# Altium schematic symbol library lib.SchLib: 480 symbols (part 6 of 6)
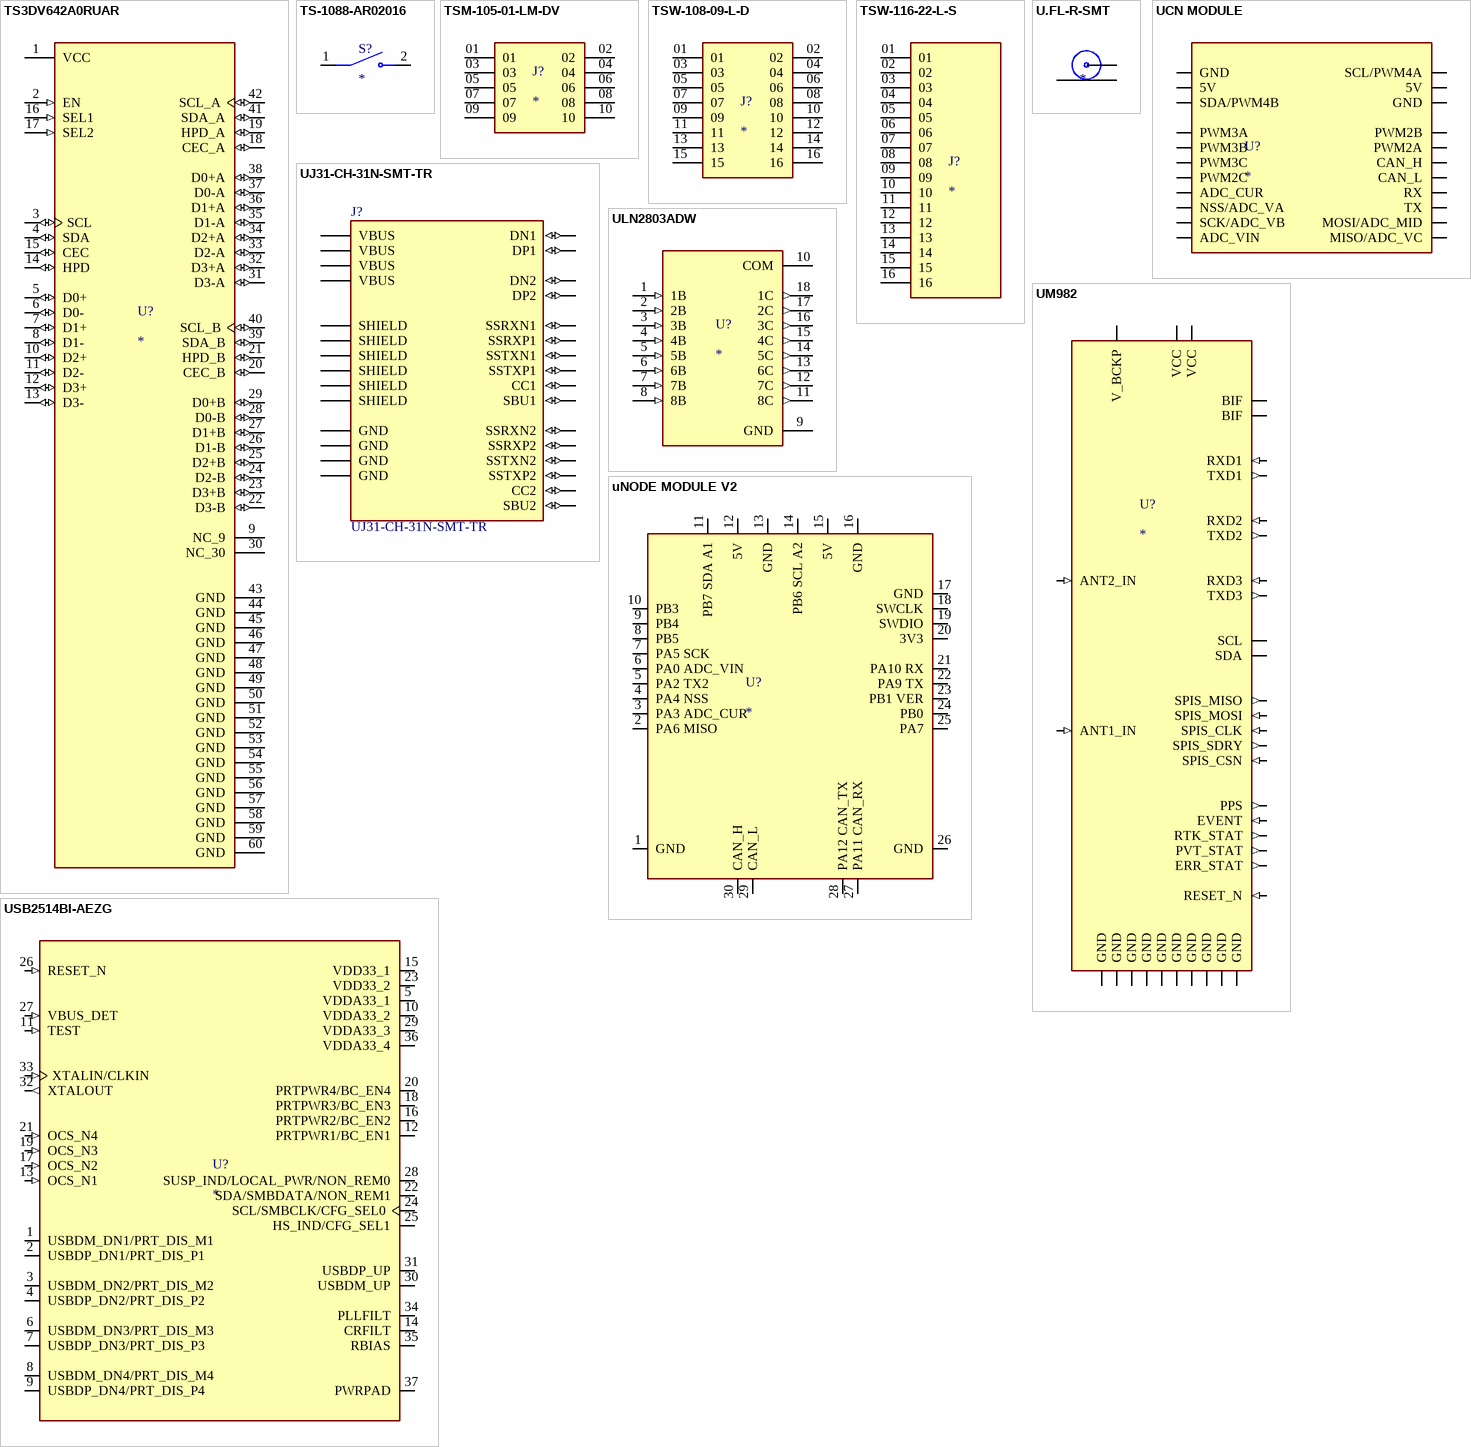
[diagram p25: symbols TS3DV642A0RUAR to USB2514BI-AEZG]

## TS3DV642A0RUAR
designator U?
Multi-Channel Differential Switch/Multiplexer Targeting DVI/HDMI & DisplayPort Applications 42-WQFN -40 to 85; MF: Texas Instruments; MP: TS3DV642A0RUAR; Texas_Instruments-Purchase-URL: https://snapeda.com/shop?store=Texas+Instruments&id=50654; SnapEDA_Link: https://www.snapeda.com/parts/TS3DV642A0RUAR/Texas%20Instruments/view-part/50654/?ref=snap; Price: None; Availability: Unavailable; Value: *; Package: WQFN-42 Texas Instruments
footprint QFN50P900X350X80-43N
pins: 1 VCC (power), 2 EN (in), 3 SCL (io), 4 SDA (io), 5 D0+ (io), 6 D0- (io), 7 D1+ (io), 8 D1- (io), 9 NC_9, 10 D2+ (io), 11 D2- (io), 12 D3+ (io), 13 D3- (io), 14 HPD (io), 15 CEC (io), 16 SEL1 (in), 17 SEL2 (in), 18 CEC_A (io), 19 HPD_A (io), 20 CEC_B (io), 21 HPD_B (io), 22 D3-B (io), 23 D3+B (io), 24 D2-B (io), 25 D2+B (io), 26 D1-B (io), 27 D1+B (io), 28 D0-B (io), 29 D0+B (io), 30 NC_30, 31 D3-A (io), 32 D3+A (io), 33 D2-A (io), 34 D2+A (io), 35 D1-A (io), 36 D1+A (io), 37 D0-A (io), 38 D0+A (io), 39 SDA_B (io), 40 SCL_B (io), 41 SDA_A (io), 42 SCL_A (io), 43 GND (power), 44 GND (power), 45 GND (power), 46 GND (power), 47 GND (power), 48 GND (power), 49 GND (power), 50 GND (power), 51 GND (power), 52 GND (power), 53 GND (power), 54 GND (power), 55 GND (power), 56 GND (power), 57 GND (power), 58 GND (power), 59 GND (power), 60 GND (power)

## TS-1088-AR02016
designator S?
50mA 4mm 100MÎ© 100,000 Times 12V 160gf 3mm 2mm Round Button Vertical welding SPST SMD Tactile Switches ROHS; MF: Xunpu; MP: TS-1088-AR02016; SnapEDA_Link: https://www.snapeda.com/parts/TS-1088-AR02016/Xunpu/view-part/?ref=snap; Package: Package; Value: *; Check_prices: https://www.snapeda.com/parts/TS-1088-AR02016/Xunpu/view-part/?ref=eda
footprint SW_TS-1088-AR02016
pins: 1, 2

## TSM-105-01-LM-DV
designator J?
Conn Unshrouded Header HDR 10 POS 2.54mm Solder ST SMD Tube; MP: TSM-105-01-LM-DV; MF: Samtec; SnapEDA_Link: https://www.snapeda.com/parts/TSM-105-01-LM-DV/Samtec/view-part/?ref=snap; Package: None; Value: *
footprint SAMTEC_TSM-105-01-LM-DV
pins: 01, 02, 03, 04, 05, 06, 07, 08, 09, 10

## TSW-108-09-L-D
designator J?
MP: TSW-108-09-L-D; Package: None; Value: *
footprint SAMTEC_TSW-108-09-L-D
pins: 01, 02, 03, 04, 05, 06, 07, 08, 09, 10, 11, 12, 13, 14, 15, 16

## TSW-116-22-L-S
designator J?
MP: TSW-116-22-L-S; Package: None; Price: None; Value: *; Availability: Unavailable
footprint SAMTEC_TSW-116-22-L-S
pins: 01, 02, 03, 04, 05, 06, 07, 08, 09, 10, 11, 12, 13, 14, 15, 16

## U.FL-R-SMT
designator ?
U.FL _UMCC_ Connector Receptacle, Male Pin 50Ohm Surface Mount Solder; MF: Hirose Electric; MP: U.FL-R-SMT; Package: None; Value: *; SnapEDA_Link: https://www.snapeda.com/parts/U.FL-R-SMT/Hirose%20Electric%20Co%20Ltd/view-part/470271/?ref=snap; ChipDip_Link: https://www.chipdip.ru/product1/8001801560; HelpURL: http://www.farnell.com/datasheets/2691132.pdf
footprint U.FL-R-SMT (Footprint not found)
pins: P$1, P$2 (power), P$3 (power)

## UCN MODULE
designator U?
Instructions: DNP; Package: None; Value: *
footprint UCN MODULE
pins: 1 ADC_VIN, 2 SCK/ADC_VB, 3 NSS/ADC_VA, 4 ADC_CUR, 5 PWM2C, 6 PWM3C, 7 PWM3B, 8 PWM3A, 9 SDA/PWM4B, 10 5V, 11 GND, 12 SCL/PWM4A, 13 5V, 14 GND, 15 PWM2B, 16 PWM2A, 17 CAN_H, 18 CAN_L, 19 RX, 20 TX, 21 MOSI/ADC_MID, 22 MISO/ADC_VC

## UJ31-CH-31N-SMT-TR
designator J?
Type C, USB 3.1 Gen 2, 5 A, Right Angle, Surface Mount _SMT_, USB Receptacle; MF: CUI Devices; Value: *; SnapEDA_Link: https://www.snapeda.com/parts/UJ31-CH-31N-SMT-TR/CUI%20Devices/view-part/2776725/?ref=snap; Package: None; MP: UJ31-CH-31N-SMT-TR; ChipDip_Link: https://www.chipdip.ru/product1/8002862225; HelpURL: https://www.chipdip.ru/product1/8002862225; Type: SMT
footprint CUI_UJ31-CH-31N-SMT-TR
pins: A1 GND (power), A2 SSTXP1 (io), A3 SSTXN1 (io), A4 VBUS (power), A5 CC1 (io), A6 DP1 (io), A7 DN1 (io), A8 SBU1 (io), A9 VBUS (power), A10 SSRXN2 (io), A11 SSRXP2 (io), A12 GND (power), B1 GND (power), B2 SSTXP2 (io), B3 SSTXN2 (io), B4 VBUS (power), B5 CC2 (io), B6 DP2 (io), B7 DN2 (io), B8 SBU2 (io), B9 VBUS (power), B10 SSRXN1 (io), B11 SSRXP1 (io), B12 GND (power), SH1 SHIELD (power), SH2 SHIELD (power), SH3 SHIELD (power), SH4 SHIELD (power), SH5 SHIELD (power), SH6 SHIELD (power)

## ULN2803ADW
designator U?
50-V, 8-ch darlington array; MF: Texas Instruments; MP: ULN2803ADW; SnapEDA_Link: https://www.snapeda.com/parts/ULN2803ADW/Texas+Instruments/view-part/?ref=snap; Package: SOIC-18 Texas Instruments; Value: *; Check_prices: https://www.snapeda.com/parts/ULN2803ADW/Texas+Instruments/view-part/?ref=eda; HelpURL: https://www.lcsc.com/datasheet/C845537.pdf
footprint IC_ULN2803ADW
pins: 1 1B (in), 2 2B (in), 3 3B (in), 4 4B (in), 5 5B (in), 6 6B (in), 7 7B (in), 8 8B (in), 9 GND (power), 10 COM (power), 11 8C (out), 12 7C (out), 13 6C (out), 14 5C (out), 15 4C (out), 16 3C (out), 17 2C (out), 18 1C (out)

## UM982
designator U?
u-blox F9 high precision GNSS module; MF: U-Blox America; MP: ZED-F9P-00B-02; Price: None; Availability: Unavailable; SnapEDA_Link: https://www.snapeda.com/parts/ZED-F9P-00B-02/U-Blox%20America%20Inc./view-part/4176726/?ref=snap; Value: *; Package: SMD-54 u-blox; HelpURL: https://en.unicorecomm.com/download?id=2&s=982#main
footprint UM982
pins: 1 GND, 2 ANT1_IN (in), 3 GND, 4 GND, 5 V_BCKP, 6 SPIS_CSN (in), 7 SPIS_MOSI (in), 8 SPIS_CLK (in), 9 SPIS_MISO (out), 10 SPIS_SDRY (out), 14 ERR_STAT (out), 15 PVT_STAT (out), 16 RTK_STAT (out), 17 RXD1 (in), 18 TXD1 (out), 19 RXD2 (in), 20 TXD2 (out), 21 SCL (io), 22 SDA (io), 23 VCC, 24 VCC, 25 BIF, 26 BIF, 27 TXD3 (out), 28 RXD3 (in), 30 PPS (out), 32 EVENT (in), 33 RESET_N (in), 34 GND, 35 GND, 36 ANT2_IN (in), 37 GND, 41 GND, 43 GND, 45 GND, PAD GND

## uNODE MODULE V2
designator U?
Instructions: DNP; Package: None; Value: *
footprint uNODE_MODULE_V2
pins: 1 GND, 2 PA6 MISO, 3 PA3 ADC_CUR, 4 PA4 NSS, 5 PA2 TX2, 6 PA0 ADC_VIN, 7 PA5 SCK, 8 PB5, 9 PB4, 10 PB3, 11 PB7 SDA A1, 12 5V, 13 GND, 14 PB6 SCL A2, 15 5V, 16 GND, 17 GND, 18 SWCLK, 19 SWDIO, 20 3V3, 21 PA10 RX, 22 PA9 TX, 23 PB1 VER, 24 PB0, 25 PA7, 26 GND, 27 PA11 CAN_RX, 28 PA12 CAN_TX, 29 CAN_L, 30 CAN_H

## USB2514BI-AEZG
designator U?
USB Hub Controller USB 2.0 USB Interface 36-QFN (6x6); MF: Microchip; MP: USB2514BI-AEZG-TR; SnapEDA_Link: https://www.snapeda.com/parts/USB2514BI-AEZG-TR/Microchip/view-part/?ref=snap; Package: VQFN-36 Microchip; Value: *; Check_prices: https://www.snapeda.com/parts/USB2514BI-AEZG-TR/Microchip/view-part/?ref=eda
footprint QFN50P600X600X100-37N
pins: 1 USBDM_DN1/PRT_DIS_M1 (io), 2 USBDP_DN1/PRT_DIS_P1 (io), 3 USBDM_DN2/PRT_DIS_M2 (io), 4 USBDP_DN2/PRT_DIS_P2 (io), 5 VDDA33_1 (power), 6 USBDM_DN3/PRT_DIS_M3 (io), 7 USBDP_DN3/PRT_DIS_P3 (io), 8 USBDM_DN4/PRT_DIS_M4 (io), 9 USBDP_DN4/PRT_DIS_P4 (io), 10 VDDA33_2 (power), 11 TEST (in), 12 PRTPWR1/BC_EN1 (io), 13 OCS_N1 (in), 14 CRFILT, 15 VDD33_1 (power), 16 PRTPWR2/BC_EN2 (io), 17 OCS_N2 (in), 18 PRTPWR3/BC_EN3 (io), 19 OCS_N3 (in), 20 PRTPWR4/BC_EN4 (io), 21 OCS_N4 (in), 22 SDA/SMBDATA/NON_REM1 (io), 23 VDD33_2 (power), 24 SCL/SMBCLK/CFG_SEL0 (io), 25 HS_IND/CFG_SEL1 (io), 26 RESET_N (in), 27 VBUS_DET (in), 28 SUSP_IND/LOCAL_PWR/NON_REM0 (io), 29 VDDA33_3 (power), 30 USBDM_UP (io), 31 USBDP_UP (io), 32 XTALOUT (out), 33 XTALIN/CLKIN (in), 34 PLLFILT, 35 RBIAS, 36 VDDA33_4 (power), 37 PWRPAD (power)

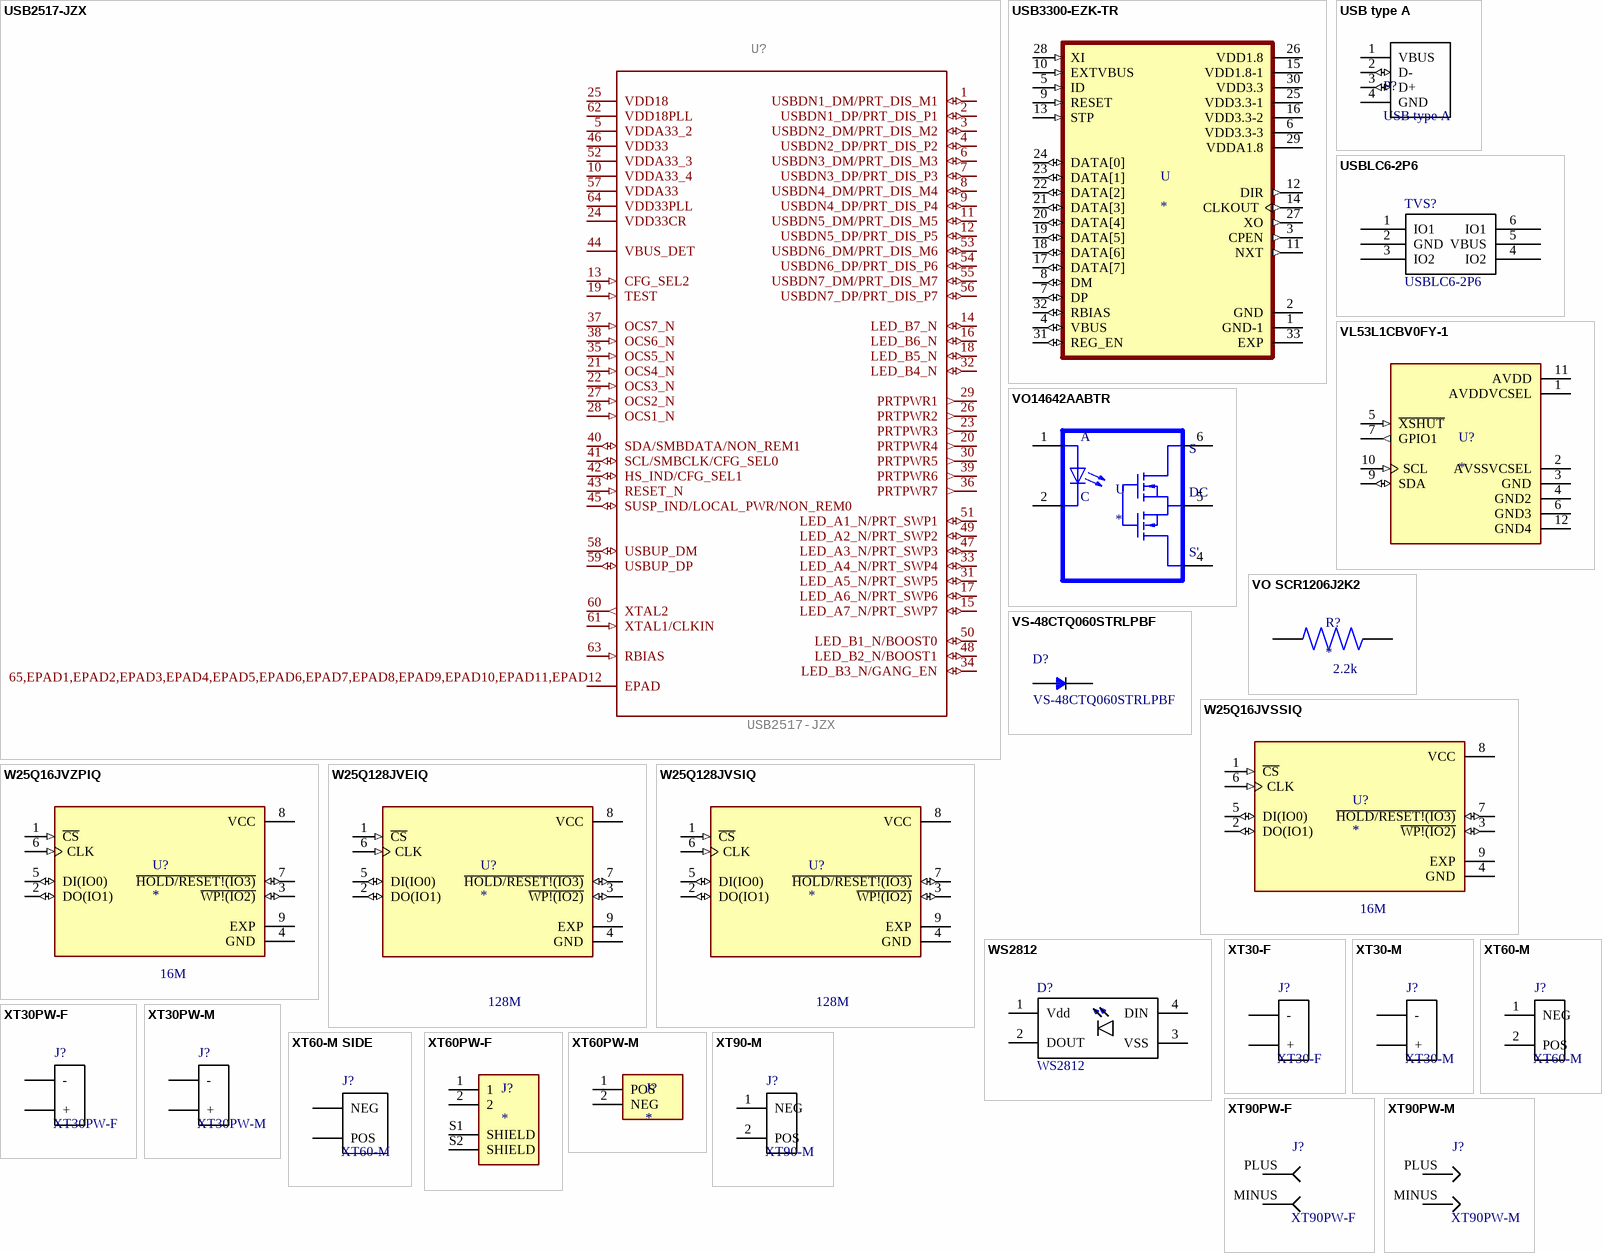
[diagram p19: symbols USB2517-JZX to XT90PW-M]

## USB2517-JZX
designator U?
IC, 7-PORT USB 2.0 HUB CONTRL, 64QFN
footprint QFN64-9X9MM-FT2232HQ (Footprint not found)
pins: 1 USBDN1_DM/PRT_DIS_M1 (io), 2 USBDN1_DP/PRT_DIS_P1 (io), 3 USBDN2_DM/PRT_DIS_M2 (io), 4 USBDN2_DP/PRT_DIS_P2 (io), 5 VDDA33_2 (power), 6 USBDN3_DM/PRT_DIS_M3 (io), 7 USBDN3_DP/PRT_DIS_P3 (io), 8 USBDN4_DM/PRT_DIS_M4 (io), 9 USBDN4_DP/PRT_DIS_P4 (io), 10 VDDA33_4 (power), 11 USBDN5_DM/PRT_DIS_M5 (io), 12 USBDN5_DP/PRT_DIS_P5 (io), 13 CFG_SEL2 (in), 14 LED_B7_N (io), 15 LED_A7_N/PRT_SWP7 (io), 16 LED_B6_N (io), 17 LED_A6_N/PRT_SWP6 (io), 18 LED_B5_N (io), 19 TEST (in), 20 PRTPWR4 (out), 21 OCS4_N (in), 22 OCS3_N (in), 23 PRTPWR3 (out), 24 VDD33CR (power), 25 VDD18 (power), 26 PRTPWR2 (out), 27 OCS2_N (in), 28 OCS1_N (in), 29 PRTPWR1 (out), 30 PRTPWR5 (out), 31 LED_A5_N/PRT_SWP5 (io), 32 LED_B4_N (io), 33 LED_A4_N/PRT_SWP4 (io), 34 LED_B3_N/GANG_EN (io), 35 OCS5_N (in), 36 PRTPWR7 (out), 37 OCS7_N (in), 38 OCS6_N (in), 39 PRTPWR6 (out), 40 SDA/SMBDATA/NON_REM1 (io), 41 SCL/SMBCLK/CFG_SEL0 (io), 42 HS_IND/CFG_SEL1 (io), 43 RESET_N (in), 44 VBUS_DET (power), 45 SUSP_IND/LOCAL_PWR/NON_REM0 (io), 46 VDD33 (power), 47 LED_A3_N/PRT_SWP3 (io), 48 LED_B2_N/BOOST1 (io), 49 LED_A2_N/PRT_SWP2 (io), 50 LED_B1_N/BOOST0 (io), 51 LED_A1_N/PRT_SWP1 (io), 52 VDDA33_3 (power), 53 USBDN6_DM/PRT_DIS_M6 (io), 54 USBDN6_DP/PRT_DIS_P6 (io), 55 USBDN7_DM/PRT_DIS_M7 (io), 56 USBDN7_DP/PRT_DIS_P7 (io), 57 VDDA33 (power), 58 USBUP_DM (io), 59 USBUP_DP (io), 60 XTAL2 (out), 61 XTAL1/CLKIN (in), 62 VDD18PLL (power), 63 RBIAS (in), 64 VDD33PLL (power), 65,EPAD1,EPAD2,EPAD3,EPAD4,EPAD5,EPAD6,EPAD7,EPAD8,EPAD9,EPAD10,EPAD11,EPAD12 EPAD

## USB3300-EZK-TR
designator U
USB Controller USB 2.0, OTG ULPI Interface 32-QFN _5x5_; MF: Microchip; MP: USB3300-EZK-TR; Value: *; SnapEDA_Link: https://www.snapeda.com/parts/USB3300-EZK-TR/Microchip/view-part/328725/?ref=snap; Package: QFN-32 Microchip; ChipDip_Link: https://www.chipdip.ru/product/usb3300-ezk-tr; HelpURL: https://static.chipdip.ru/lib/652/DOC001652593.pdf
footprint QFN50P500X500X100-33N
pins: 1 GND-1 (power), 2 GND (power), 3 CPEN (out), 4 VBUS (io), 5 ID (in), 6 VDD3.3-3 (power), 7 DP (io), 8 DM (io), 9 RESET (in), 10 EXTVBUS (in), 11 NXT (out), 12 DIR (out), 13 STP (in), 14 CLKOUT (out), 15 VDD1.8-1 (power), 16 VDD3.3-2 (power), 17 DATA[7] (io), 18 DATA[6] (io), 19 DATA[5] (io), 20 DATA[4] (io), 21 DATA[3] (io), 22 DATA[2] (io), 23 DATA[1] (io), 24 DATA[0] (io), 25 VDD3.3-1 (power), 26 VDD1.8 (power), 27 XO (out), 28 XI (in), 29 VDDA1.8 (power), 30 VDD3.3 (power), 31 REG_EN (io), 32 RBIAS (io), 33 EXP (power)

## USB type A
designator P?
USB - micro A; MF: Molex; MP: 47346-0001; Value: *; SnapEDA_Link: https://www.snapeda.com/parts/47346-0001/Molex/view-part/53503/?ref=snap; Package: None; ChipDip_Link: https://www.chipdip.ru/product/molex-47346-0001; HelpURL: https://static.chipdip.ru/lib/002/DOC001002744.pdf
footprint USB type A
pins: 1 VBUS (power), 2 D- (io), 3 D+ (io), 4 GND

## USBLC6-2P6
designator TVS?
17V Clamp 5A (8/20µs) Ipp Tvs Diode Surface Mount SOT-666; MF: STM; ChipDip_Link: https://www.chipdip.ru/product/usblc6-2p6-2; HelpURL: https://static.chipdip.ru/lib/093/DOC001093117.pdf; MP: USBLC6-2P6; Package: SOT-666; SnapEDA_Link: https://www.snapeda.com/parts/USBLC6-2P6/STMicroelectronics/view-part/?ref=search&t=USBLC6-2P6; Type: SMD
footprint SOT23127P600-8N
pins: 1 IO1, 2 GND, 3 IO2, 4 IO2, 5 VBUS, 6 IO1

## VL53L1CBV0FY-1
designator U?
Optical Sensor 157.480 _4m_ IÂ²C Output; MF: STMicroelectronics; MP: VL53L1CBV0FY/1; Availability: Unavailable; Price: None; Package: LGA-12 STMicroelectronics; Value: *; SnapEDA_Link: https://www.snapeda.com/parts/VL53L1CBV0FY/1/STMicroelectronics/view-part/1664750/?ref=snap; HelpURL: https://www.st.com/en/imaging-and-photonics-solutions/vl53l1.html#
footprint XDCR_VL53L1CBV0FY-1
pins: 1 AVDDVCSEL (power), 2 AVSSVCSEL (power), 3 GND (power), 4 GND2 (power), 5 ~{XSHUT} (in), 6 GND3 (power), 7 GPIO1 (out), 9 SDA (io), 10 SCL (in), 11 AVDD (power), 12 GND4 (power)

## VO14642AABTR
designator U
Solid State SPST-NO _1 Form A_ 6-SMD _0.300, 7.62mm_; MP: VO14642AABTR; MF: Vishay; Digi-Key_Part_Number: VO14642AABCT-ND; Value: *; SnapEDA_Link: https://www.snapeda.com/parts/VO14642AABTR/Vishay%20Semiconductor%20Opto%20Division/view-part/226427/?ref=snap; Digi-Key_Purchase_URL: https://www.digikey.com/product-detail/en/vishay-semiconductor-opto-division/VO14642AABTR/VO14642AABCT-ND/4743823?utm_source=snapeda&utm_medium=aggregator&utm_campaign=symbol; Package: SMD-6 Vishay; HelpURL: https://www.lcsc.com/datasheet/C2653901.pdf
footprint SOIC254P1005X390-6N
pins: 1 A, 2 C, 4 S', 5 DC, 6 S

## VO SCR1206J2K2
designator R?  value 2.2k
2200 Ohms Â±1% 0.25W, 1/4W Chip Resistor 1206 (3216 Metric) Moisture Resistant Thick Film; MF: VO; MP: VO SCR1206J2K2; SnapEDA_Link: https://www.snapeda.com/parts/CR1206-FX-2400ELF/Bourns/view-part/?ref=snap; Check_prices: https://www.snapeda.com/parts/CR1206-FX-2400ELF/Bourns/view-part/?ref=eda; HelpURL: https://www.lcsc.com/product-detail/C3018022.html?s_z=n_CR1206%25202.2k
footprint RESC3216X75N
pins: 1, 2

## VS-48CTQ060STRLPBF
designator D?
Schottky Diode, 2 x 20A, 60V, D2-PAK; MF: Pericom; MP: B340-13-F; Package: DO-214AB-214 Pericom; SnapEDA_Link: https://www.snapeda.com/parts/B340-13-F/Pericom/view-part/?ref=snap; Value: *
footprint D2-PAK DIODE
pins: A, C

## W25Q16JVSSIQ
designator U?  value 16M
FLASH - NOR Memory IC 16Mb (2M x 8) SPI - Quad I/O 133MHz 8-WSON (6x5); MF: Winbond Electronics; MP: W25Q16JVZPIQ; Price: None; Package: SOIC-8 Winbond; SnapEDA_Link: https://www.snapeda.com/parts/W25Q16JVZPIQ/Winbond%20Electronics/view-part/618097/?ref=snap; Mouser-Purchase-URL: https://snapeda.com/shop?store=Mouser&id=618097; Availability: Warning; DigiKey-Purchase-URL: https://snapeda.com/shop?store=DigiKey&id=618097
footprint SOIC127P790X216-8N
pins: 1 ~{CS} (in), 2 DO(IO1) (io), 3 ~{WP!(IO2)} (io), 4 GND (power), 5 DI(IO0) (io), 6 CLK (in), 7 ~{HOLD/RESET!(IO3)} (io), 8 VCC (power), 9 EXP

## W25Q16JVZPIQ
designator U?  value 16M
FLASH - NOR Memory IC 16Mb (2M x 8) SPI - Quad I/O 133MHz 8-WSON (6x5); MF: Winbond Electronics; MP: W25Q16JVZPIQ; Price: None; Package: WSON-8 Winbond; SnapEDA_Link: https://www.snapeda.com/parts/W25Q16JVZPIQ/Winbond%20Electronics/view-part/618097/?ref=snap; Mouser-Purchase-URL: https://snapeda.com/shop?store=Mouser&id=618097; Availability: Warning; DigiKey-Purchase-URL: https://snapeda.com/shop?store=DigiKey&id=618097
footprint SON127P500X600X80-9N
pins: 1 ~{CS} (in), 2 DO(IO1) (io), 3 ~{WP!(IO2)} (io), 4 GND (power), 5 DI(IO0) (io), 6 CLK (in), 7 ~{HOLD/RESET!(IO3)} (io), 8 VCC (power), 9 EXP

## W25Q128JVEIQ
designator U?  value 128M
FLASH - NOR Memory IC 128Mb (16M x 8) SPI - Quad I/O, QPI, DTR 133 MHz 8-SOIC; MF: Winbond Electronics; MP: W25Q128JVSIQ; Price: None; Purchase-URL: https://pricing.snapeda.com/search/part/W25Q128JVSIQ/?ref=eda; Check_prices: https://www.snapeda.com/parts/W25Q128JVSIQ/Winbond+Electronics/view-part/?ref=eda; Package: WSON-8 Winbond; SnapEDA_Link: https://www.snapeda.com/parts/W25Q128JVSIQ/Winbond+Electronics/view-part/?ref=snap; Availability: In Stock
footprint SON127P500X600X80-9N
pins: 1 ~{CS} (in), 2 DO(IO1) (io), 3 ~{WP!(IO2)} (io), 4 GND (power), 5 DI(IO0) (io), 6 CLK (in), 7 ~{HOLD/RESET!(IO3)} (io), 8 VCC (power), 9 EXP

## W25Q128JVSIQ
designator U?  value 128M
FLASH - NOR Memory IC 128Mb (16M x 8) SPI - Quad I/O, QPI, DTR 133 MHz 8-SOIC; MF: Winbond Electronics; MP: W25Q128JVSIQ; Price: None; Purchase-URL: https://pricing.snapeda.com/search/part/W25Q128JVSIQ/?ref=eda; Check_prices: https://www.snapeda.com/parts/W25Q128JVSIQ/Winbond+Electronics/view-part/?ref=eda; Package: SOIC-8 Winbond; SnapEDA_Link: https://www.snapeda.com/parts/W25Q128JVSIQ/Winbond+Electronics/view-part/?ref=snap; Availability: In Stock
footprint SOIC127P790X216-8N
pins: 1 ~{CS} (in), 2 DO(IO1) (io), 3 ~{WP!(IO2)} (io), 4 GND (power), 5 DI(IO0) (io), 6 CLK (in), 7 ~{HOLD/RESET!(IO3)} (io), 8 VCC (power), 9 EXP

## WS2812
designator D?
Addressable Lighting - 5 LED Discrete Serial _Shift Register_ Red, Green, Blue _RGB_ 5.00mm Dia; MF: SparkFun Electronics; Type: SMD; MP: WS2812; Value: *; SnapEDA_Link: https://www.snapeda.com/parts/WS2812/SparkFun%20Electronics/view-part/106391/?ref=snap; Package: SparkFun Electronics; HelpURL: https://static.chipdip.ru/lib/554/DOC001554925.pdf; ChipDip_Link: https://www.chipdip.ru/product/ws2812b
footprint LED_WS2812
pins: 1 Vdd (power), 2 DOUT (power), 3 VSS (power), 4 DIN (power)

## XT30-F
designator J?
MP: XT60-M; MF: AMASS; Package: Package Analog Devices; SnapEDA_Link: https://www.snapeda.com/parts/XT60-M/AMASS/view-part/?ref=snap; Value: *
footprint XT30-F
footprint XT30-F - Side
pins: MINUS -, PLUS +

## XT30-M
designator J?
MP: XT60-M; MF: AMASS; Package: Package Analog Devices; SnapEDA_Link: https://www.snapeda.com/parts/XT60-M/AMASS/view-part/?ref=snap; Value: *
footprint XT30-M
footprint XT30-M side
pins: MINUS -, PLUS +

## XT30PW-F
designator J?
MF: AMASS; Package: Package Analog Devices; MP: XT30PW-F; SnapEDA_Link: https://www.snapeda.com/parts/XT60-M/AMASS/view-part/?ref=snap; Value: *
footprint XT30PW-F
pins: MINUS -, PLUS +

## XT30PW-M
designator J?
MF: AMASS; Package: Package Analog Devices; MP: XT30PW-M; SnapEDA_Link: https://www.snapeda.com/parts/XT60-M/AMASS/view-part/?ref=snap; Value: *
footprint XT30PW-M
pins: MINUS -, PLUS +

## XT60-M
designator J?
MF: AMASS; Package: Package Analog Devices; MP: XT60-M; SnapEDA_Link: https://www.snapeda.com/parts/XT60-M/AMASS/view-part/?ref=snap; Value: *
footprint XT60-M_TOP
pins: 1 NEG, 2 POS

## XT60-M SIDE
designator J?, comment XT60-M
MF: AMASS; Package: Package Analog Devices; MP: XT60-M; SnapEDA_Link: https://www.snapeda.com/parts/XT60-M/AMASS/view-part/?ref=snap; Value: *
footprint XT60-M SIDE
pins: 1 NEG, 2 POS

## XT60PW-F
designator J?
Socket DC Supply Connector Female; MP: XT60PW-F; MF: AMASS; SnapEDA_Link: https://www.snapeda.com/parts/XT60PW-F/AMASS/view-part/2890674/?ref=snap; Value: *; Package: Package
footprint AMASS_XT60PW-F
pins: 1, 2, S1 SHIELD, S2 SHIELD

## XT60PW-M
designator J?
Socket, DC supply, male, PIN: 2; MP: XT60PW-M; MF: AMASS; Package: Package; SnapEDA_Link: https://www.snapeda.com/parts/XT60PW-M/AMASS/view-part/?ref=snap; Value: *
footprint AMASS_XT60PW-M
pins: 1 POS, 2 NEG

## XT90-M
designator J?
MP: XT60-M; MF: AMASS; Package: Package Analog Devices; SnapEDA_Link: https://www.snapeda.com/parts/XT60-M/AMASS/view-part/?ref=snap; Value: *
footprint XT90
footprint XT90 SIDE
footprint XT90 VERTICAL
footprint XT90 SIDE INV
pins: 1 NEG, 2 POS

## XT90PW-F
designator J?
MP: XT60-M; MF: AMASS; Package: Package Analog Devices; SnapEDA_Link: https://www.snapeda.com/parts/XT60-M/AMASS/view-part/?ref=snap; Value: *
footprint XT90PW-F
pins: MINUS, PLUS

## XT90PW-M
designator J?
MP: XT60-M; MF: AMASS; Package: Package Analog Devices; SnapEDA_Link: https://www.snapeda.com/parts/XT60-M/AMASS/view-part/?ref=snap; Value: *
footprint XT90PW-M
pins: MINUS, PLUS

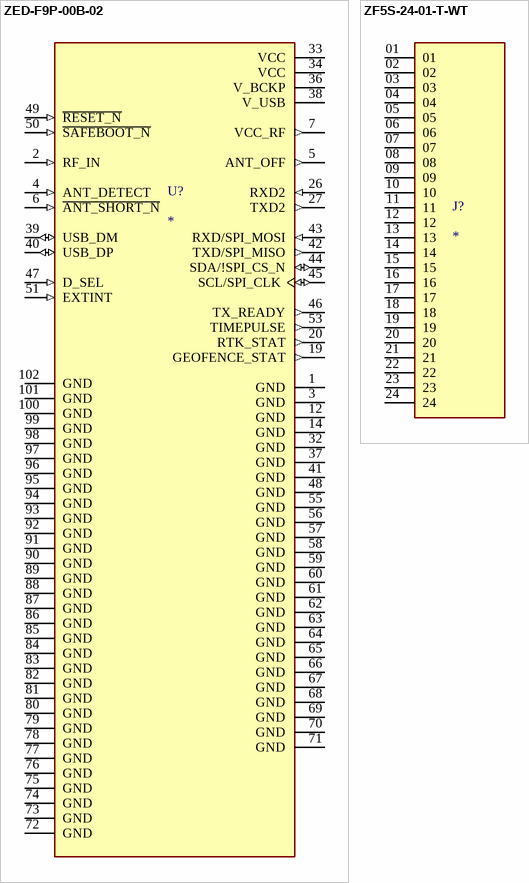
[diagram p20: symbols ZED-F9P-00B-02 to ZF5S-24-01-T-WT]

## ZED-F9P-00B-02
designator U?
u-blox F9 high precision GNSS module; MF: U-Blox America; MP: ZED-F9P-00B-02; Price: None; Availability: Unavailable; SnapEDA_Link: https://www.snapeda.com/parts/ZED-F9P-00B-02/U-Blox%20America%20Inc./view-part/4176726/?ref=snap; Value: *; Package: SMD-54 u-blox
footprint XCVR_ZED-F9P-00B-02
pins: 1 GND (power), 2 RF_IN (in), 3 GND (power), 4 ANT_DETECT (in), 5 ANT_OFF (out), 6 ~{ANT_SHORT_N} (in), 7 VCC_RF (out), 12 GND (power), 14 GND (power), 19 GEOFENCE_STAT (out), 20 RTK_STAT (out), 26 RXD2 (in), 27 TXD2 (out), 32 GND (power), 33 VCC (power), 34 VCC (power), 36 V_BCKP (power), 37 GND (power), 38 V_USB (power), 39 USB_DM (io), 40 USB_DP (io), 41 GND (power), 42 TXD/SPI_MISO (out), 43 RXD/SPI_MOSI (in), 44 SDA/!SPI_CS_N (io), 45 SCL/SPI_CLK (io), 46 TX_READY (out), 47 D_SEL (in), 48 GND (power), 49 ~{RESET_N} (in), 50 ~{SAFEBOOT_N} (in), 51 EXTINT (in), 53 TIMEPULSE (out), 55 GND (power), 56 GND (power), 57 GND (power), 58 GND (power), 59 GND (power), 60 GND (power), 61 GND (power), 62 GND (power), 63 GND (power), 64 GND (power), 65 GND (power), 66 GND (power), 67 GND (power), 68 GND (power), 69 GND (power), 70 GND (power), 71 GND (power), 72 GND (power), 73 GND (power), 74 GND (power), 75 GND (power), 76 GND (power), 77 GND (power), 78 GND (power), 79 GND (power), 80 GND (power), 81 GND (power), 82 GND (power), 83 GND (power), 84 GND (power), 85 GND (power), 86 GND (power), 87 GND (power), 88 GND (power), 89 GND (power), 90 GND (power), 91 GND (power), 92 GND (power), 93 GND (power), 94 GND (power), 95 GND (power), 96 GND (power), 97 GND (power), 98 GND (power), 99 GND (power), 100 GND (power), 101 GND (power), 102 GND (power)

## ZF5S-24-01-T-WT
designator J?
MF: Samtec; MP: ZF5S-24-01-T-WT; Package: None; Value: *
footprint SAMTEC_ZF5S-24-01-T-WT
pins: 01, 02, 03, 04, 05, 06, 07, 08, 09, 10, 11, 12, 13, 14, 15, 16, 17, 18, 19, 20, 21, 22, 23, 24